# Altium footprint library IC_misc.PcbLib: 46 footprints (part 1 of 3)
Each footprint in its own frame and in the unit in brackets; x right, y up, seen from the top. Pads: shape width x height; smd on the part's side, far side on the other; paste and mask are expansions set on the pad; w line width, h text height; cw(c..) or ccw(c..) is an arc to the next point about the centre after c.
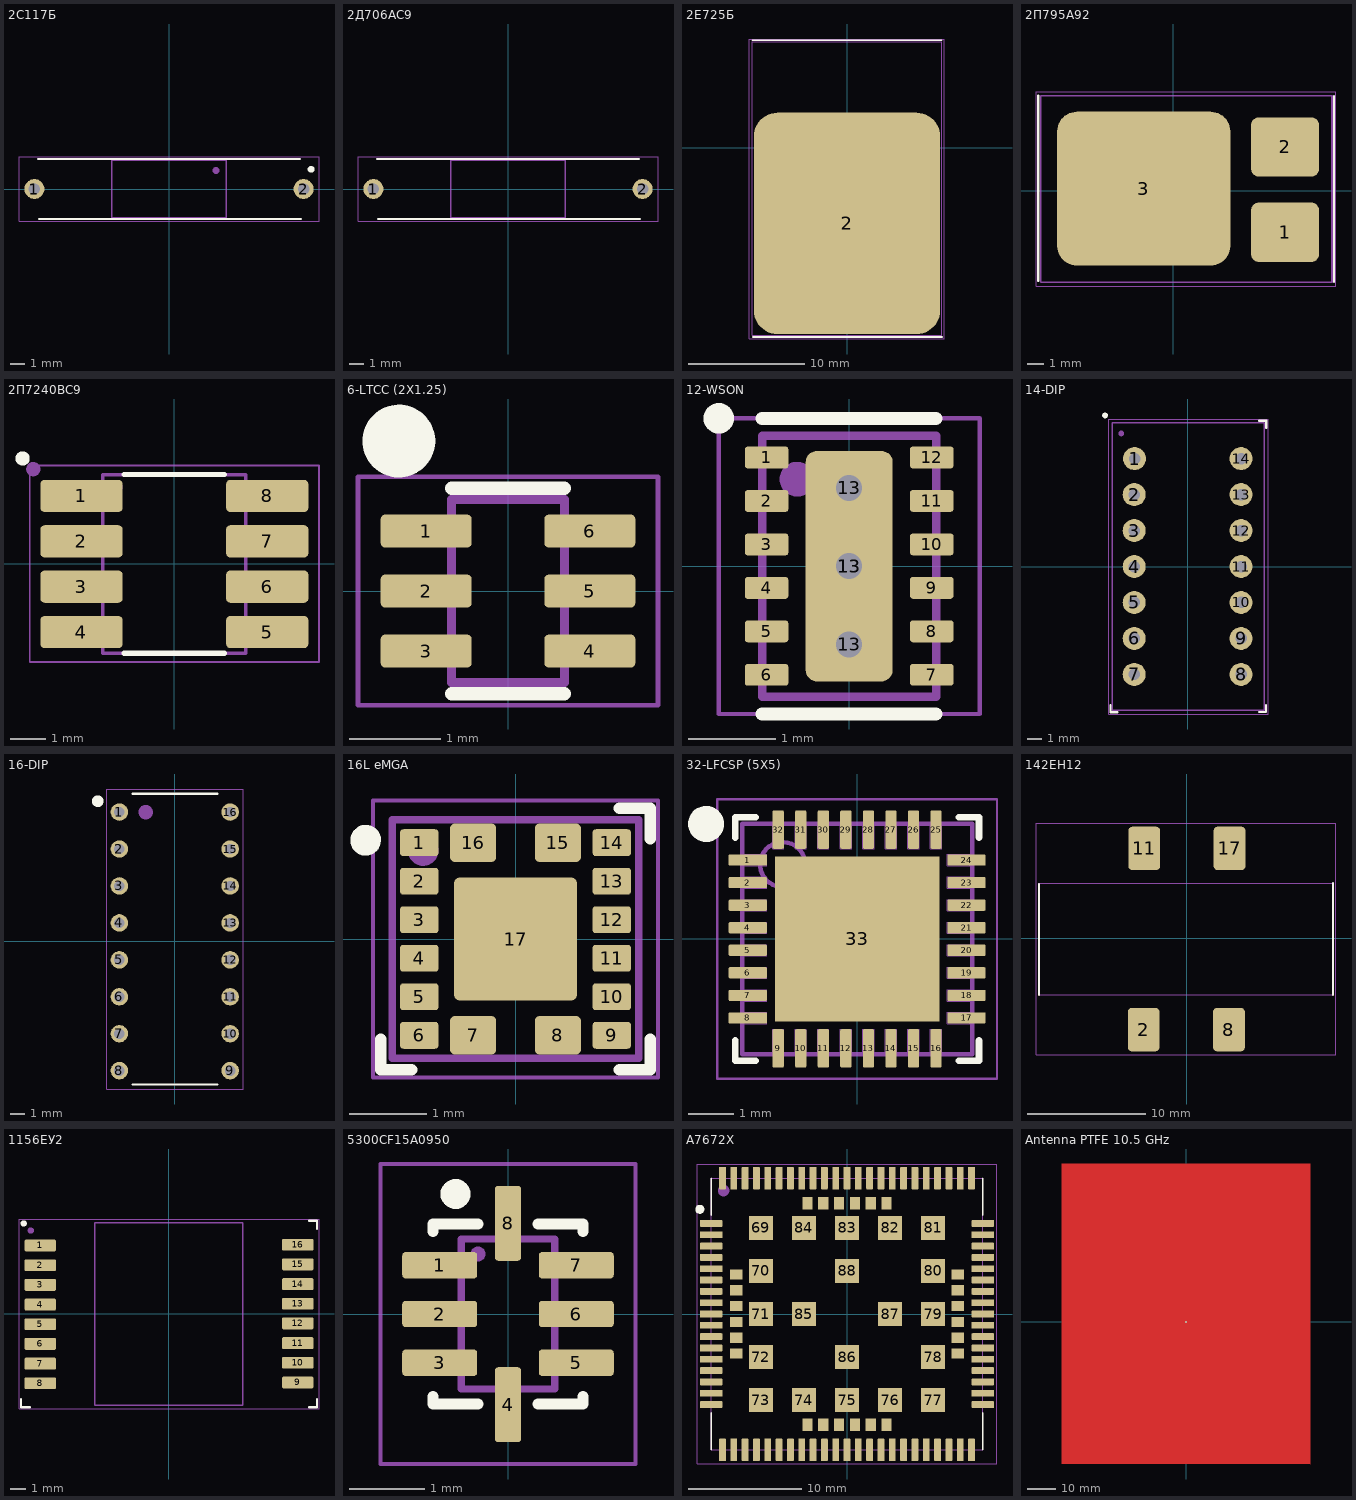
[diagram p0: the footprints below, top view; thin cyan lines are the x and y axes]

## 2C117Б [mm]
pads (2):
  round 1.4 hole 0.8: 1(-9.375,0) 2(9.375,0)
Top Overlay:
  circle w0.254: c9.898,1.371 r0.111
  lines w0.15: -9.125,2.101 9.125,2.1 ; -9.05,-2.1 9.2,-2.1
Top Assembly:
  circle w0.254: c3.274,1.291 r0.112
  lines w0.1: -4,-2 4,-2 4,2 -4,2 -4,-2
  text ".Designator" at -4.998,-0.333 h1
Top Courtyard:
  lines w0.05: -10.45,-2.25 -10.45,2.25 10.45,2.25 10.45,-2.25 -10.45,-2.25

## 2Д706АС9 [mm]
pads (2):
  round 1.4 hole 0.8: 1(-9.375,0) 2(9.375,0)
Top Overlay:
  lines w0.15: -9.125,2.101 9.125,2.1 ; -9.05,-2.1 9.2,-2.1
Top Assembly:
  lines w0.1: -4,-2 -4,2 4,2 4,-2 -4,-2
  text ".Designator" at -4.998,-0.333 h1
Top Courtyard:
  lines w0.05: -10.45,-2.25 10.45,-2.25 10.45,2.25 -10.45,2.25 -10.45,-2.25

## 2Е725Б [mm]
pads (1):
  rrect25% 16x19 smd: 2(0,-6.5)
Top Overlay:
  lines w0.15: -8.125,9.225 8.125,9.225 ; -8.1,-16.25 8.15,-16.25
Top Assembly:
  lines w0.05: -8.125,-16.1 -8.125,9.1 8.125,9.1 8.125,-16.1 -8.125,-16.1
  text ".Designator" at -4.998,-0.333 h1
Top Courtyard:
  lines w0.05: -8.4,-16.425 -8.4,9.325 8.35,9.325 8.35,-16.425 -8.4,-16.425

## 2П795А92 [mm]
pads (3):
  rrect25% 4.25x3.7 smd: 1(6.975,-2.6) 2(6.975,2.725)
  rrect25% 10.8x9.6 smd: 3(-1.85,0.125)
Top Overlay:
  lines w0.15: -8.425,-5.625 -8.425,5.925 ; 10.025,-5.7 10.025,5.9
Top Assembly:
  lines w0.1: -8.275,-5.725 -8.275,5.925 9.9,5.925 9.9,-5.725 -8.275,-5.725
  text ".Designator" at -4.998,-0.333 h1
Top Courtyard:
  lines w0.05: -8.575,-5.975 10.15,-5.975 10.15,6.175 -8.575,6.175 -8.575,-5.975
3D body: height 3.6, standoff 0, extent -8.275,-5.725 9.9,5.925

## 2П7240ВС9 [mm]
pads (8):
  rrect25% 2.3x0.9 smd: 1(-2.6,1.9) 2(-2.6,0.63) 3(-2.6,-0.64) 4(-2.6,-1.91) 5(2.6,-1.91) 6(2.6,-0.64) 7(2.6,0.63) 8(2.6,1.9)
Top Overlay:
  circle w0.2: c-4.25,2.95 r0.1
  lines w0.15: -1.4,-2.5 1.4,-2.5 ; -1.4,2.5 1.4,2.5
Top Assembly:
  circle w0.2: c-3.95,2.65 r0.1
  circle w0.2: c-1.65,2.15 r0.1
  lines w0.1: -2,-2.5 -2,2.5 2,2.5 2,-2.5 -2,-2.5
  text ".Designator" at -4.998,-0.333 h1
Top Courtyard:
  lines w0.05: -4.05,-2.75 -4.05,2.75 4.05,2.75 4.05,-2.75 -4.05,-2.75

## 6-LTCC (2X1.25) [mm] "LTCC, 6-Leads, Body 2,00x1,25mm, Pitch 0,65mm, IPC Medium Density"
height 0.84
pads (6):
  rrect25% 1x0.36 smd: 1(-0.9,0.66) 2(-0.9,0) 3(-0.9,-0.66) 4(0.9,-0.66) 5(0.9,0) 6(0.9,0.66)
Top Overlay:
  circle w0.4: c-1.2,1.65 r0.2
  lines w0.15: -0.62,-1.13 0.62,-1.13 ; -0.62,1.13 0.62,1.13
Top Assembly:
  lines w0.1: -0.62,-1.005 -0.62,1.005 0.62,1.005 0.62,-1.005 -0.62,-1.005
  text ".Designator" at -4.998,-0.333 h1
Top Courtyard:
  lines w0.05: -1.65,-1.255 1.65,-1.255 1.65,1.255 -1.65,1.255 -1.65,-1.255
3D body "NCS2-622+.step": height 0.93, standoff 0, extent -0.621,-1.005 0.621,1.005

## 12-WSON [mm]
pads (16):
  rrect25% 0.5x0.25 smd: 1(-0.95,1.25) 2(-0.95,0.75) 3(-0.95,0.25) 4(-0.95,-0.25) 5(-0.95,-0.75) 6(-0.95,-1.25) 7(0.95,-1.25) 8(0.95,-0.75) 9(0.95,-0.25) 10(0.95,0.25) 11(0.95,0.75) 12(0.95,1.25)
  round 0.6 hole 0.3: 13(0,-0.9) 13(0,0) 13(0,0.9)
  rrect25% 1x2.65 smd: 13(0,0)
Top Overlay:
  circle w0.25: c-1.5,1.7 r0.05
  lines w0.15: -1,-1.7 1,-1.7 ; -1,1.7 1,1.7
Top Assembly:
  circle w0.2: c-0.6,1 r0.1
  lines w0.1: -1,-1.5 1,-1.5 1,1.5 -1,1.5 -1,-1.5
  text ".Designator" at 0.333,-4.998 h1
Top Courtyard:
  lines w0.05: -1.5,-1.7 1.5,-1.7 1.5,-1 1.5,1.7 -1.5,1.7 -1.5,-1.7
3D body "User Library-WFDFN-12.step": height 0.75, standoff -0.01, extent -1.001,-1.501 1.001,1.501

## 14-DIP [mm]
pads (14):
  round 1.6 hole 0.8: 1(-3.7,7.5) 2(-3.725,5) 3(-3.725,2.5) 4(-3.725,0) 5(-3.725,-2.5) 6(-3.725,-5) 7(-3.725,-7.5) 8(3.7,-7.5) 9(3.7,-5) 10(3.7,-2.5) 11(3.7,0) 12(3.7,2.5) 13(3.7,5) 14(3.7,7.5)
Top Overlay:
  circle w0.2: c-5.75,10.5 r0.1
  lines w0.15: -5.38,-9.63 -5.38,-10.13 -4.88,-10.13 ; 4.939,-10.118 5.439,-10.118 5.439,-9.618 ; 4.956,10.127 5.456,10.127 5.456,9.627
Top Assembly:
  circle w0.2: c-4.625,9.25 r0.1
  lines w0.1: -5.25,-10 -5.25,10 5.3,10 5.3,-10 -5.25,-10
  text ".Designator" at -4.998,-0.333 h1
Top Courtyard:
  lines w0.05: -5.5,-10.25 5.6,-10.25 5.6,10.25 -5.5,10.25 -5.5,-10.25

## 16-DIP [mm]
pads (16):
  round 1.2 hole 0.7: 1(-3.81,8.89) 2(-3.81,6.35) 3(-3.81,3.81) 4(-3.81,1.27) 5(-3.81,-1.27) 6(-3.81,-3.81) 7(-3.81,-6.35) 8(-3.81,-8.89) 9(3.81,-8.89) 10(3.81,-6.35) 11(3.81,-3.81) 12(3.81,-1.27) 13(3.81,1.27) 14(3.81,3.81) 15(3.81,6.35) 16(3.81,8.89)
Top Overlay:
  circle w0.4: c-5.291,9.638 r0.2
  lines w0.15: -2.9,-9.85 2.925,-9.85 ; -2.9,10.15 2.925,10.15
Top Assembly:
  circle w1: c-2,8.89 r0.001
  text ".Designator" at 0.333,-4.998 h1
Top Courtyard:
  lines w0.05: -4.675,-10.15 -4.675,10.475 4.7,10.475 4.7,-10.15 -4.675,-10.15
3D body "CircuitWorks-DIP 16 IC.STEP": height 5.6, standoff -2.8, extent -3.935,-9.85 3.935,10.15

## 16L eMGA [mm] "TSOP, 16-Leads, Body 5,00x4,40mm, Pitch 0,65mm, IPC Medium Density"
height 1.2
pads (17):
  rrect25% 0.5x0.35 smd: 1(-1.25,1.25) 2(-1.25,0.75) 3(-1.25,0.25) 4(-1.25,-0.25) 5(-1.25,-0.75) 6(-1.25,-1.25) 9(1.25,-1.25) 10(1.25,-0.75) 11(1.25,-0.25) 12(1.25,0.25) 13(1.25,0.75) 14(1.25,1.25)
  rrect25% 0.6x0.5 smd: 7(-0.55,-1.25) 8(0.55,-1.25) 15(0.55,1.25) 16(-0.55,1.25)
  rrect10% 1.6x1.6 smd: 17(0,0)
Top Overlay:
  lines w0.15: -1.75,-1.3 -1.75,-1.7 -1.35,-1.7 ; 1.35,-1.7 1.75,-1.7 1.75,-1.3 ; 1.35,1.7 1.75,1.7 1.75,1.3
  lines w0.2: -1.85,1.25 cw(c-1.945,1.282) -1.845,1.282
Top Assembly:
  circle w0.2: c-1.2,1.15 r0.1
  lines w0.1: -1.6,-1.55 -1.6,1.55 1.6,1.55 1.6,-1.55 -1.6,-1.55
  text ".Designator" at -4.998,-0.333 h1
Top Courtyard:
  lines w0.05: -1.85,-1.8 -1.85,1.8 1.85,1.8 1.85,-1.8 -1.85,-1.8
3D body "User Library-21-100298_90-100110_MXM_16-eMGA.step": height 1.81, standoff 0, extent -1.575,-1.575 1.575,1.575

## 32-LFCSP (5X5) [mm] "LFCSP, 32-Leads, Body 5,00x5,00mm, Pitch 0,50mm, Thermal Pad 3,60x3,60mm, IPC Medium Density"
height 0.8
pads (33):
  rrect25% 0.85x0.25 smd: 1(-2.425,1.75) 2(-2.425,1.25) 3(-2.425,0.75) 4(-2.425,0.25) 5(-2.425,-0.25) 6(-2.425,-0.75) 7(-2.425,-1.25) 8(-2.425,-1.75) 17(2.425,-1.75) 18(2.425,-1.25) 19(2.425,-0.75) 20(2.425,-0.25) 21(2.425,0.25) 22(2.425,0.75) 23(2.425,1.25) 24(2.425,1.75)
  rrect25% 0.25x0.85 smd: 9(-1.75,-2.425) 10(-1.25,-2.425) 11(-0.75,-2.425) 12(-0.25,-2.425) 13(0.25,-2.425) 14(0.75,-2.425) 15(1.25,-2.425) 16(1.75,-2.425) 25(1.75,2.425) 26(1.25,2.425) 27(0.75,2.425) 28(0.25,2.425) 29(-0.25,2.425) 30(-0.75,2.425) 31(-1.25,2.425) 32(-1.75,2.425)
  rect 3.65x3.65 smd: 33(0,0)
Top Overlay:
  circle w0.4: c-3.35,2.55 r0.2
  lines w0.15: -2.7,-2.25 -2.7,-2.7 -2.25,-2.7 ; -2.7,2.25 -2.7,2.7 -2.25,2.7 ; 2.25,-2.7 2.7,-2.7 2.7,-2.25 ; 2.25,2.7 2.7,2.7 2.7,2.25
Top Assembly:
  circle w0.1: c-1.65,1.65 r0.5
  lines w0.015: -2.5,-1.875 -2,-1.875 -2,-1.625 -2.5,-1.625 -2.5,-1.875 ; -2.5,-1.375 -2,-1.375 -2,-1.125 -2.5,-1.125 -2.5,-1.375 ; -2.5,-0.875 -2.5,-0.625 -2,-0.625 -2,-0.875 -2.5,-0.875 ; -2.5,-0.375 -2.5,-0.125 -2,-0.125 -2,-0.375 -2.5,-0.375 ; -2.5,0.125 -2.5,0.375 -2,0.375 -2,0.125 -2.5,0.125 ; -2.5,0.625 -2.5,0.875 -2,0.875 -2,0.625 -2.5,0.625 ; -2.5,1.125 -2.5,1.375 -2,1.375 -2,1.125 -2.5,1.125 ; -2.5,1.625 -2.5,1.875 -2,1.875 -2,1.625 -2.5,1.625 ; -1.875,-2.5 -1.875,-2 -1.625,-2 -1.625,-2.5 -1.875,-2.5 ; -1.875,2 -1.625,2 -1.625,2.5 -1.875,2.5 -1.875,2 ; -1.8,-1.8 -1.8,1.8 1.8,1.8 1.8,-1.8 -1.8,-1.8 ; -1.375,-2.5 -1.375,-2 -1.125,-2 -1.125,-2.5 -1.375,-2.5 ; -1.375,2 -1.125,2 -1.125,2.5 -1.375,2.5 -1.375,2 ; -0.875,-2.5 -0.875,-2 -0.625,-2 -0.625,-2.5 -0.875,-2.5 ; -0.875,2 -0.875,2.5 -0.625,2.5 -0.625,2 -0.875,2 ; -0.375,-2.5 -0.125,-2.5 -0.125,-2 -0.375,-2 -0.375,-2.5 ; -0.375,2 -0.125,2 -0.125,2.5 -0.375,2.5 -0.375,2 ; 0.125,-2.5 0.375,-2.5 0.375,-2 0.125,-2 0.125,-2.5 ; 0.125,2 0.125,2.5 0.375,2.5 0.375,2 0.125,2 ; 0.625,-2.5 0.625,-2 0.875,-2 0.875,-2.5 0.625,-2.5 ; 0.625,2 0.625,2.5 0.875,2.5 0.875,2 0.625,2 ; 1.125,-2.5 1.125,-2 1.375,-2 1.375,-2.5 1.125,-2.5 ; 1.125,2 1.125,2.5 1.375,2.5 1.375,2 1.125,2 ; 1.625,-2.5 1.625,-2 1.875,-2 1.875,-2.5 1.625,-2.5 ; 1.625,2 1.625,2.5 1.875,2.5 1.875,2 1.625,2 ; 2,-1.875 2,-1.625 2.5,-1.625 2.5,-1.875 2,-1.875 ; 2,-1.375 2,-1.125 2.5,-1.125 2.5,-1.375 2,-1.375 ; 2,-0.875 2,-0.625 2.5,-0.625 2.5,-0.875 2,-0.875 ; 2,-0.375 2,-0.125 2.5,-0.125 2.5,-0.375 2,-0.375 ; 2,0.125 2,0.375 2.5,0.375 2.5,0.125 2,0.125 ; 2,0.625 2,0.875 2.5,0.875 2.5,0.625 2,0.625 ; 2,1.125 2,1.375 2.5,1.375 2.5,1.125 2,1.125 ; 2,1.625 2,1.875 2.5,1.875 2.5,1.625 2,1.625
  lines w0.1: -2.55,-2.55 2.55,-2.55 2.55,2.55 -2.55,2.55 -2.55,-2.55
  text ".Designator" at -4.998,-0.333 h1
Top Courtyard:
  lines w0.05: -3.1,-3.1 3.1,-3.1 3.1,3.1 -3.1,3.1 -3.1,-3.1
  lines w0.1: -0.5,0 0.5,0 ; 0,-0.5 0,0.5
3D body "ADF4355-3.step": height 0.8, standoff 0, extent -2.57,-2.57 2.57,2.57

## 142ЕН12 [mm]
pads (4):
  rrect25% 2.7x3.7 smd: 2(-3.65,-7.75) 8(3.6,-7.75) 11(-3.6,7.65) 17(3.65,7.65)
Top Overlay:
  lines w0.15: -12.55,-4.8 -12.55,4.65 ; 12.45,-4.8 12.45,4.7
Top Assembly:
  lines w0.1: -12.55,-4.8 12.45,-4.8 12.45,4.7 -12.55,4.7 -12.55,-4.8
  text ".Designator" at -4.998,-0.333 h1
Top Courtyard:
  lines w0.05: -12.8,-9.9 -12.8,9.8 12.7,9.8 12.7,-9.9 -12.8,-9.9

## 1156ЕУ2 [mm]
pads (16):
  rrect25% 2x0.75 smd: 1(-8.15,4.35) 2(-8.15,3.1) 3(-8.15,1.85) 4(-8.15,0.6) 5(-8.15,-0.65) 6(-8.15,-1.9) 7(-8.15,-3.15) 8(-8.15,-4.4) 9(8.2,-4.35) 10(8.2,-3.1) 11(8.2,-1.85) 12(8.2,-0.6) 13(8.2,0.65) 14(8.2,1.9) 15(8.2,3.15) 16(8.2,4.4)
Top Overlay:
  circle w0.2: c-9.2,5.75 r0.1
  lines w0.15: -9.376,-5.4 -9.376,-5.913 -8.8,-5.913 ; 8.921,5.918 9.421,5.918 9.421,5.418 ; 8.922,-5.916 9.422,-5.916 9.422,-5.416
Top Assembly:
  circle w0.2: c-8.75,5.3 r0.1
  lines w0.1: -4.7,-5.8 4.7,-5.8 4.7,5.8 -4.7,5.8 -4.7,-5.8
  text ".Designator" at -4.998,-0.333 h1
Top Courtyard:
  lines w0.05: -9.5,-6.026 -9.5,6.024 9.55,6.024 9.55,-6.026 -9.5,-6.026

## 5300CF15A0950 [mm]
pads (8):
  rrect25% 1x0.35 smd: 1(-0.91,0.65) 2(-0.91,0) 3(-0.91,-0.65) 5(0.91,-0.65) 6(0.91,0) 7(0.91,0.65)
  rrect25% 0.35x1 smd: 4(0,-1.21) 8(0,1.21)
Top Overlay:
  circle w0.2: c-0.7,1.6 r0.1
  lines w0.15: -1,-1.1 -1,-1.2 -0.4,-1.2 ; -1,1.1 -1,1.2 -0.4,1.2 ; 0.4,-1.2 1,-1.2 1,-1.1 ; 0.4,1.2 1,1.2 1,1.1
Top Assembly:
  circle w0.2: c-0.4,0.8 r0
  lines w0.1: -0.625,-1 0.625,-1 0.625,1 -0.625,1 -0.625,-1
  text ".Designator" at -3.749,-0.25 h0.75
Top Courtyard:
  lines w0.05: -1.7,-2 1.7,-2 1.7,2 -1.7,2 -1.7,-2
3D body: height 0.7, standoff 0, extent -0.625,-1 0.625,1

## A7672X [mm]
pads (124):
  rrect25% 2x0.6 smd: 1(-12,8) 2(-12,7) 3(-12,6) 4(-12,5) 5(-12,4) 6(-12,3) 7(-12,2) 8(-12,1) 9(-12,0) 10(-12,-1) 11(-12,-2) 12(-12,-3) 13(-12,-4) 14(-12,-5) 15(-12,-6) 16(-12,-7) 17(-12,-8) 35(12,-8) 36(12,-7) 37(12,-6) 38(12,-5) 39(12,-4) 40(12,-3) 41(12,-2) 42(12,-1) 43(12,0) 44(12,1) 45(12,2) 46(12,3) 47(12,4) 48(12,5) 49(12,6) 50(12,7) 51(12,8)
  rrect25% 0.6x2 smd: 18(-8,-12) 19(-7,-12) 20(-6,-12) 21(-5,-12) 22(-4,-12) 23(-3,-12) 24(-2,-12) 25(-1,-12) 26(0,-12) 27(1,-12) 28(2,-12) 29(3,-12) 30(4,-12) 31(5,-12) 32(6,-12) 33(7,-12) 34(8,-12) 52(8,12) 53(7,12) 54(6,12) 55(5,12) 56(4,12) 57(3,12) 58(2,12) 59(1,12) 60(0,12) 61(-1,12) 62(-2,12) 63(-3,12) 64(-4,12) 65(-5,12) 66(-6,12) 67(-7,12) 68(-8,12) 89(-11,-12) 90(-10,-12) 91(-9,-12) 92(9,-12) 93(10,-12) 94(11,-12) 95(11,12) 96(10,12) 97(9,12) 98(-9,12) 99(-10,12) 100(-11,12)
  rect 2.1x2.1 smd: 69(-7.6,7.6) 70(-7.6,3.8) 71(-7.6,0) 72(-7.6,-3.8) 73(-7.6,-7.6) 74(-3.8,-7.6) 75(0,-7.6) 76(3.8,-7.6) 77(7.6,-7.6) 78(7.6,-3.8) 79(7.6,0) 80(7.6,3.8) 81(7.6,7.6) 82(3.8,7.6) 83(0,7.6) 84(-3.8,7.6) 85(-3.8,0) 86(0,-3.8) 87(3.8,0) 88(0,3.8)
  rect 1.1x0.9 smd: 101(-9.8,3.5) 102(-9.8,2.1) 103(-9.8,0.7) 104(-9.8,-0.7) 105(-9.8,-2.1) 106(-9.8,-3.5) 113(9.8,-3.5) 114(9.8,-2.1) 115(9.8,-0.7) 116(9.8,0.7) 117(9.8,2.1) 118(9.8,3.5)
  rect 0.9x1.1 smd: 107(-3.5,-9.8) 108(-2.1,-9.8) 109(-0.7,-9.8) 110(0.7,-9.8) 111(2.1,-9.8) 112(3.5,-9.8) 119(3.5,9.8) 120(2.1,9.8) 121(0.7,9.8) 122(-0.7,9.8) 123(-2.1,9.8) 124(-3.5,9.8)
Top Overlay:
  circle w0.4: c-13,9.25 r0.2
  lines w0.15: -12,-12 -12,-8.75 ; -12,8.75 -12,12 ; 12,-12 12,-8.75 ; 12,8.75 12,12
Top Assembly:
  circle w0.8: c-10.9,10.9 r0.1
  lines w0.1: -12,-12 12,-12 12,12 -12,12 -12,-12
  text ".Designator" at -4.998,-0.333 h1
Top Courtyard:
  lines w0.05: -13.25,-13.25 13.25,-13.25 13.25,13.25 -13.25,13.25 -13.25,-13.25
3D body "step_temp.STEP": height 2.6, standoff 0, extent -12,-12 12,12

## Antenna PTFE 10.5 GHz [mm]
pads (1):
  round 0.6 smd paste+0: 1(0,0)
via 0,0 diameter 0.6 hole 0.3
Top Layer:
  region: -0.195,0.228 -0.195,21.24 0.195,21.24 0.195,0.228 0.174,0.244 0.128,0.271 0.079,0.289 0.027,0.299 0,0.3 -0.026,0.299 -0.079,0.289 -0.128,0.271 -0.174,0.244
  region: -0.195,-21.24 -0.195,-0.228 -0.174,-0.244 -0.128,-0.271 -0.079,-0.289 -0.026,-0.299 0,-0.3 0.027,-0.299 0.079,-0.289 0.128,-0.271 0.174,-0.244 0.195,-0.228 0.195,-21.24
  region: -0.27,21.24 -0.27,25.5 0.27,25.5 0.27,21.24
  region: -0.27,-25.5 -0.27,-21.24 0.27,-21.24 0.27,-25.5
  region: -19.08,25.305 -19.08,25.695 -14.77,25.695 -14.77,25.6 14.77,25.6 14.77,25.695 19.08,25.695 19.08,25.305 14.77,25.305 14.77,25.4 -14.77,25.4 -14.77,25.305
  region: -19.08,-25.695 -19.08,-25.305 -14.77,-25.305 -14.77,-25.4 14.77,-25.4 14.77,-25.305 19.08,-25.305 19.08,-25.695 14.77,-25.695 14.77,-25.6 -14.77,-25.6 -14.77,-25.695
  region: -19.18,-34.02 -18.98,-34.02 -18.98,-16.98 -19.18,-16.98
  region: -19.18,16.98 -18.98,16.98 -18.98,34.02 -19.18,34.02
  region: 18.98,16.98 19.18,16.98 19.18,34.02 18.98,34.02
  region: 18.98,-34.02 19.18,-34.02 19.18,-16.98 18.98,-16.98
  region: -13.955,37.48 -9.84,37.48 -9.84,38.58 -9.64,38.58 -9.64,33.08 -9.44,33.08 -9.44,38.58 -9.24,38.58 -9.24,37.48 -5.125,37.48 -5.125,44.35 -13.955,44.35
  region: -28.89,31.96 -28.89,33.08 -28.35,33.08 -28.35,32.5 -24.15,32.5 -19.39,38.52 -18.77,38.52 -14.01,32.5 -9.81,32.5 -9.81,33.08 -9.27,33.08 -9.27,31.96 -14.271,31.96 -18.77,37.649 -18.77,34.02 -19.39,34.02 -19.39,37.649 -23.889,31.96
  region: -28.92,37.48 -28.92,38.58 -28.72,38.58 -28.72,33.08 -28.52,33.08 -28.52,38.58 -28.32,38.58 -28.32,37.48 -24.205,37.48 -24.205,44.35 -33.035,44.35 -33.035,37.48
  region: 24.205,37.48 28.32,37.48 28.32,38.58 28.52,38.58 28.52,33.08 28.72,33.08 28.72,38.58 28.92,38.58 28.92,37.48 33.035,37.48 33.035,44.35 24.205,44.35
  region: 9.27,31.96 9.27,33.08 9.81,33.08 9.81,32.5 14.01,32.5 18.77,38.52 19.39,38.52 24.15,32.5 28.35,32.5 28.35,33.08 28.89,33.08 28.89,31.96 23.889,31.96 19.39,37.649 19.39,34.02 18.77,34.02 18.77,37.649 14.271,31.96
  region: 9.24,37.48 9.24,38.58 9.44,38.58 9.44,33.08 9.64,33.08 9.64,38.58 9.84,38.58 9.84,37.48 13.955,37.48 13.955,44.35 5.125,44.35 5.125,37.48
  region: 24.205,-13.52 28.32,-13.52 28.32,-12.42 28.52,-12.42 28.52,-17.92 28.72,-17.92 28.72,-12.42 28.92,-12.42 28.92,-13.52 33.035,-13.52 33.035,-6.65 24.205,-6.65
  region: 9.27,-19.04 9.27,-17.92 9.81,-17.92 9.81,-18.5 14.01,-18.5 18.77,-12.48 19.39,-12.48 24.15,-18.5 28.35,-18.5 28.35,-17.92 28.89,-17.92 28.89,-19.04 23.889,-19.04 19.39,-13.351 19.39,-16.98 18.77,-16.98 18.77,-13.351 14.271,-19.04
  region: 9.24,-13.52 9.24,-12.42 9.44,-12.42 9.44,-17.92 9.64,-17.92 9.64,-12.42 9.84,-12.42 9.84,-13.52 13.955,-13.52 13.955,-6.65 5.125,-6.65 5.125,-13.52
  region: -13.955,-13.52 -9.84,-13.52 -9.84,-12.42 -9.64,-12.42 -9.64,-17.92 -9.44,-17.92 -9.44,-12.42 -9.24,-12.42 -9.24,-13.52 -5.125,-13.52 -5.125,-6.65 -13.955,-6.65
  region: -28.89,-19.04 -28.89,-17.92 -28.35,-17.92 -28.35,-18.5 -24.15,-18.5 -19.39,-12.48 -18.77,-12.48 -14.01,-18.5 -9.81,-18.5 -9.81,-17.92 -9.27,-17.92 -9.27,-19.04 -14.271,-19.04 -18.77,-13.351 -18.77,-16.98 -19.39,-16.98 -19.39,-13.351 -23.889,-19.04
  region: -28.92,-13.52 -28.92,-12.42 -28.72,-12.42 -28.72,-17.92 -28.52,-17.92 -28.52,-12.42 -28.32,-12.42 -28.32,-13.52 -24.205,-13.52 -24.205,-6.65 -33.035,-6.65 -33.035,-13.52
  region: -13.955,11.98 -9.84,11.98 -9.84,13.08 -9.64,13.08 -9.64,7.58 -9.44,7.58 -9.44,13.08 -9.24,13.08 -9.24,11.98 -5.125,11.98 -5.125,18.85 -13.955,18.85
  region: -28.89,6.46 -28.89,7.58 -28.35,7.58 -28.35,7 -24.15,7 -19.39,13.02 -19.39,16.98 -18.77,16.98 -18.77,13.02 -14.01,7 -9.81,7 -9.81,7.58 -9.27,7.58 -9.27,6.46 -14.271,6.46 -19.031,12.48 -19.129,12.48 -23.889,6.46
  region: -33.035,11.98 -28.92,11.98 -28.92,13.08 -28.72,13.08 -28.72,7.58 -28.52,7.58 -28.52,13.08 -28.32,13.08 -28.32,11.98 -24.205,11.98 -24.205,18.85 -33.035,18.85
  region: 24.205,11.98 28.32,11.98 28.32,13.08 28.52,13.08 28.52,7.58 28.72,7.58 28.72,13.08 28.92,13.08 28.92,11.98 33.035,11.98 33.035,18.85 24.205,18.85
  region: 9.27,6.46 9.27,7.58 9.81,7.58 9.81,7 14.01,7 18.77,13.02 18.77,16.98 19.39,16.98 19.39,13.02 24.15,7 28.35,7 28.35,7.58 28.89,7.58 28.89,6.46 23.889,6.46 19.129,12.48 19.031,12.48 14.271,6.46
  region: 5.125,11.98 9.24,11.98 9.24,13.08 9.44,13.08 9.44,7.58 9.64,7.58 9.64,13.08 9.84,13.08 9.84,11.98 13.955,11.98 13.955,18.85 5.125,18.85
  region: 24.205,-39.02 28.32,-39.02 28.32,-37.92 28.52,-37.92 28.52,-43.42 28.72,-43.42 28.72,-37.92 28.92,-37.92 28.92,-39.02 33.035,-39.02 33.035,-32.15 24.205,-32.15
  region: 9.27,-44.54 9.27,-43.42 9.81,-43.42 9.81,-44 14.01,-44 18.77,-37.98 18.77,-34.02 19.39,-34.02 19.39,-37.98 24.15,-44 28.35,-44 28.35,-43.42 28.89,-43.42 28.89,-44.54 23.889,-44.54 19.129,-38.52 19.031,-38.52 14.271,-44.54
  region: 5.125,-39.02 9.24,-39.02 9.24,-37.92 9.44,-37.92 9.44,-43.42 9.64,-43.42 9.64,-37.92 9.84,-37.92 9.84,-39.02 13.955,-39.02 13.955,-32.15 5.125,-32.15
  region: -13.955,-39.02 -9.84,-39.02 -9.84,-37.92 -9.64,-37.92 -9.64,-43.42 -9.44,-43.42 -9.44,-37.92 -9.24,-37.92 -9.24,-39.02 -5.125,-39.02 -5.125,-32.15 -13.955,-32.15
  region: -28.89,-44.54 -28.89,-43.42 -28.35,-43.42 -28.35,-44 -24.15,-44 -19.39,-37.98 -19.39,-34.02 -18.77,-34.02 -18.77,-37.98 -14.01,-44 -9.81,-44 -9.81,-43.42 -9.27,-43.42 -9.27,-44.54 -14.271,-44.54 -19.031,-38.52 -19.129,-38.52 -23.889,-44.54
  region: -33.035,-39.02 -28.92,-39.02 -28.92,-37.92 -28.72,-37.92 -28.72,-43.42 -28.52,-43.42 -28.52,-37.92 -28.32,-37.92 -28.32,-39.02 -24.205,-39.02 -24.205,-32.15 -33.035,-32.15
  pour cut-out: -43,54.755 43,54.755 43,-49.245 -43,-49.245
Top Solder:
  region: -43,-49.245 -43,54.755 43,54.755 43,-49.245